# Altium schematic symbol library SCH - ARM CORTEX - STM STM32L010F4Px.SchLib: 1 symbol
Pins are listed as number, name and electrical type; pins without a type are passive.

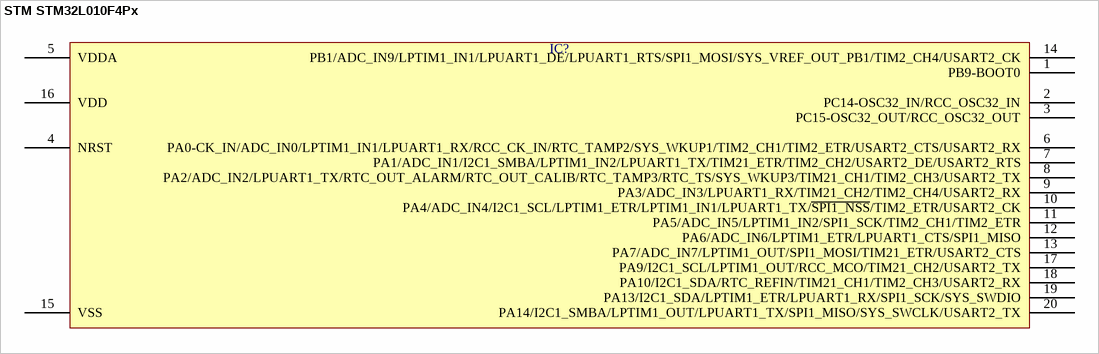
[diagram p0: symbol STM STM32L010F4Px]

## STM STM32L010F4Px
designator IC?  (value not drawn)
pins: 1 PB9-BOOT0, 2 PC14-OSC32_IN/RCC_OSC32_IN, 3 PC15-OSC32_OUT/RCC_OSC32_OUT, 4 NRST, 5 VDDA, 6 PA0-CK_IN/ADC_IN0/LPTIM1_IN1/LPUART1_RX/RCC_CK_IN/RTC_TAMP2/SYS_WKUP1/TIM2_CH1/TIM2_ETR/USART2_CTS/USART2_RX, 7 PA1/ADC_IN1/I2C1_SMBA/LPTIM1_IN2/LPUART1_TX/TIM21_ETR/TIM2_CH2/USART2_DE/USART2_RTS, 8 PA2/ADC_IN2/LPUART1_TX/RTC_OUT_ALARM/RTC_OUT_CALIB/RTC_TAMP3/RTC_TS/SYS_WKUP3/TIM21_CH1/TIM2_CH3/USART2_TX, 9 PA3/ADC_IN3/LPUART1_RX/TIM21_CH2/TIM2_CH4/USART2_RX, 10 PA4/ADC_IN4/I2C1_SCL/LPTIM1_ETR/LPTIM1_IN1/LPUART1_TX/~{SPI1_NSS}/TIM2_ETR/USART2_CK, 11 PA5/ADC_IN5/LPTIM1_IN2/SPI1_SCK/TIM2_CH1/TIM2_ETR, 12 PA6/ADC_IN6/LPTIM1_ETR/LPUART1_CTS/SPI1_MISO, 13 PA7/ADC_IN7/LPTIM1_OUT/SPI1_MOSI/TIM21_ETR/USART2_CTS, 14 PB1/ADC_IN9/LPTIM1_IN1/LPUART1_DE/LPUART1_RTS/SPI1_MOSI/SYS_VREF_OUT_PB1/TIM2_CH4/USART2_CK, 15 VSS, 16 VDD, 17 PA9/I2C1_SCL/LPTIM1_OUT/RCC_MCO/TIM21_CH2/USART2_TX, 18 PA10/I2C1_SDA/RTC_REFIN/TIM21_CH1/TIM2_CH3/USART2_RX, 19 PA13/I2C1_SDA/LPTIM1_ETR/LPUART1_RX/SPI1_SCK/SYS_SWDIO, 20 PA14/I2C1_SMBA/LPTIM1_OUT/LPUART1_TX/SPI1_MISO/SYS_SWCLK/USART2_TX